# Altium schematic symbol library SRN6045TA-150M.SchLib: 1 symbol
Pins are listed as number, name and electrical type; pins without a type are passive.

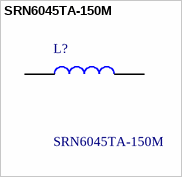
[diagram p0: symbol SRN6045TA-150M]

## SRN6045TA-150M
designator L?
BOURNS - SRN6045TA-150M - INDUCTOR, AEC-Q200, 15UH, 2.8A, 20%; Geometry.Height: 4.5mm; Mouser Part Number: 652-SRN6045TA-150M; Mouser Price/Stock: https://www.mouser.co.uk/ProductDetail/Bourns/SRN6045TA-150M?qs=Vt59ZOdFuWZ6Cpgfuuda%2Fg%3D%3D; Manufacturer_Name: Bourns; Manufacturer_Part_Number: SRN6045TA-150M; Datasheet Link: https://componentsearchengine.com/Datasheets/2/SRN6045TA-150M.pdf
footprint INDC6060X450N
pins: 1, 2